# Altium footprint library 器件封装.PCBLIB: 225 footprints (part 5 of 15)
Each footprint in its own frame and in the unit in brackets; x right, y up, seen from the top. Pads: shape width x height; smd on the part's side, far side on the other; paste and mask are expansions set on the pad; w line width, h text height; cw(c..) or ccw(c..) is an arc to the next point about the centre after c.
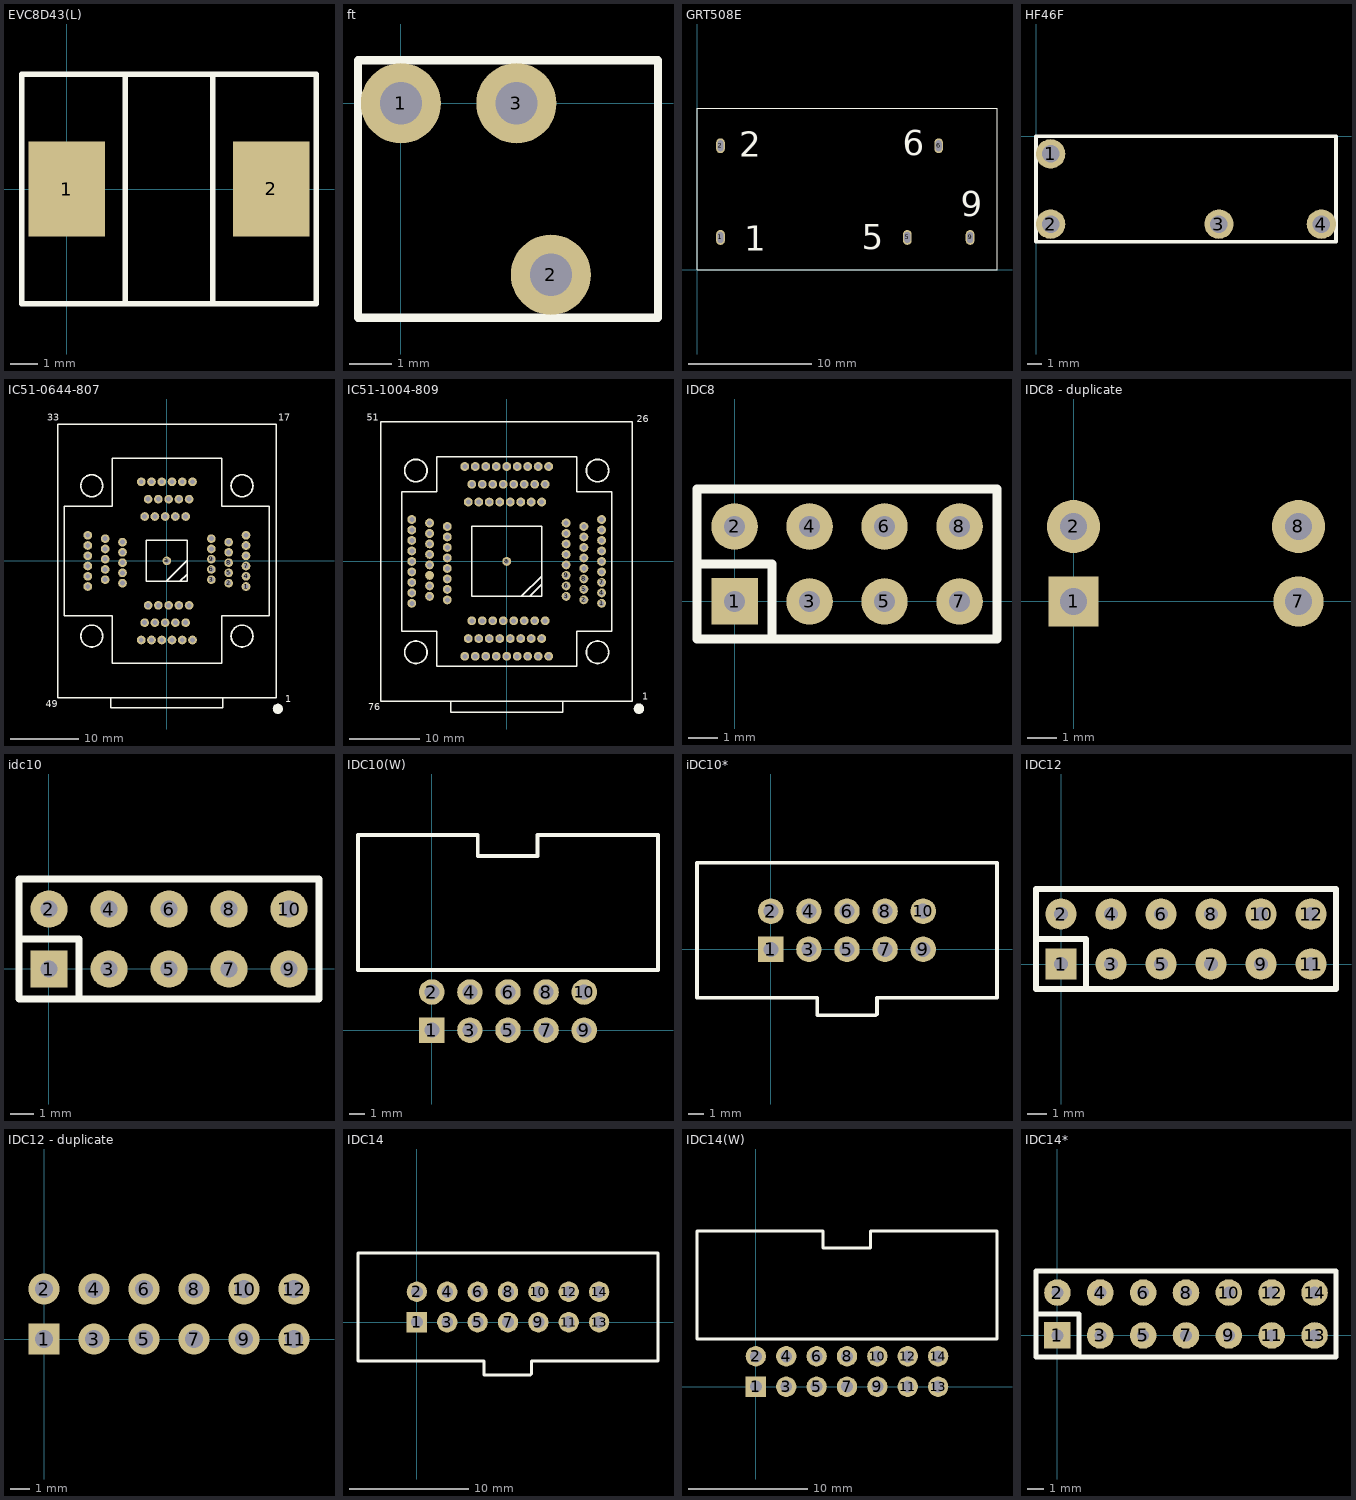
[diagram p4: the footprints below, top view; thin cyan lines are the x and y axes]

## EVC8D43(L) [mm]
pads (2):
  rect 2.8x3.5 smd: 1(0,0) 2(7.5,0)
TopOverlay:
  lines w0.2: 2.15,-4.2 2.15,4.2 ; 5.35,-4.2 5.35,4.2 ; -1.65,-4.2 9.15,-4.2 9.15,4.2 -1.65,4.2 -1.65,-4.2

## ft [mm]
pads (3):
  round 1.9 hole 1: 1(0,0) 2(3.556,-4.064) 3(2.74,0)
TopOverlay:
  lines w0.2: -1.016,-5.08 -1.016,1.016 6.096,1.016 6.096,-5.08 -1.016,-5.08

## GRT508E [mm]
pads (5):
  oval 0.7x1.2 hole 0.46 slot 0.88 at 90 deg: 1(1.9,2.6) 2(1.9,10.02) 5(17.02,2.6) 6(19.56,10.02) 9(22.1,2.6)
TopOverlay:
  lines w0.025: 0,0 24.28,0 24.28,13.04 0,13.04 0,0
  text "1" at 3.81,1.524 h2
  text "2" at 3.429,9.144 h2
  text "5" at 13.335,1.651 h2
  text "9" at 21.336,4.318 h2
  text "6" at 16.637,9.271 h2

## HF46F [mm]
pads (4):
  round 2 hole 1.2: 1(1,-1.2) 2(1,-6) 3(12.5,-6) 4(19.5,-6)
TopOverlay:
  lines w0.254: 0,-7.2 0,0 20.5,0 20.5,-7.2 0,-7.2

## IC51-0644-807 [mm]
pads (66):
  round 1.27 hole 0.72: 1(11.58,-3.75) 2(9.04,-3.25) 3(6.5,-2.75) 4(11.58,-2.25) 5(9.04,-1.75) 6(6.5,-1.25) 7(11.58,-0.75) 8(9.04,-0.25) 9(6.5,0.25) 10(11.58,0.75) 11(9.04,1.25) 12(6.5,1.75) 13(11.58,2.25) 14(9.04,2.75) 15(6.5,3.25) 16(11.58,3.75) 17(3.75,11.58) 18(3.25,9.04) 19(2.75,6.5) 20(2.25,11.58) 21(1.75,9.04) 22(1.25,6.5) 23(0.75,11.58) 24(0.25,9.04) 25(-0.25,6.5) 26(-0.75,11.58) 27(-1.25,9.04) 28(-1.75,6.5) 29(-2.25,11.58) 30(-2.75,9.04) 31(-3.25,6.5) 32(-3.75,11.58) 33(-11.58,3.75) 34(-9.04,3.25) 35(-6.5,2.75) 36(-11.58,2.25) 37(-9.04,1.75) 38(-6.5,1.25) 39(-11.58,0.75) 40(-9.04,0.25) 41(-6.5,-0.25) 42(-11.58,-0.75) 43(-9.04,-1.25) 44(-6.5,-1.75) 45(-11.58,-2.25) 46(-9.04,-2.75) 47(-6.5,-3.25) 48(-11.58,-3.75) 49(-3.75,-11.58) 50(-3.25,-9.04) 51(-2.75,-6.5) 52(-2.25,-11.58) 53(-1.75,-9.04) 54(-1.25,-6.5) 55(-0.75,-11.58) 56(-0.25,-9.04) 57(0.25,-6.5) 58(0.75,-11.58) 59(1.25,-9.04) 60(1.75,-6.5) 61(2.25,-11.58) 62(2.75,-9.04) 63(3.25,-6.5) 64(3.75,-11.58) a(0,0)
  round 1.524 on Top Overlay: ""(16.25,-21.644)
TopOverlay:
  circle w0.254: c-11,-11 r1.6
  circle w0.254: c11,-11 r1.6
  circle w0.254: c-11,11 r1.6
  circle w0.254: c11,11 r1.6
  lines w0.2: -8.2,-20 -8.2,-21.5 8.2,-21.5 8.2,-20 ; -0.1,-3 2.9,0 3,0 ; 1.9,-3 2.9,-2 ; -16,-20 -16,20 16,20 16,-20 -16,-20 ; -15,-8 -15,8 -8,8 -8,15 8,15 8,8 15,8 15,-8 8,-8 8,-15 -8,-15 -8,-8 -15,-8 ; -3,-3 -3,3 3,3 3,-3 -3,-3
  text "1" at 17.32,-20.67 h1
  text "33" at -17.5,20.5 h1
  text "17" at 16.3,20.5 h1
  text "49" at -17.7,-21.4 h1

## IC51-1004-809 [mm]
pads (102):
  round 1.27 hole 0.72: 1(13.58,-6) 2(11.04,-5.5) 3(8.5,-5) 4(13.58,-4.5) 5(11.04,-4) 6(8.5,-3.5) 7(13.58,-3) 8(11.04,-2.5) 9(8.5,-2) 10(13.58,-1.5) 11(11.04,-1) 12(8.5,-0.5) 13(13.58,0) 14(11.04,0.5) 15(8.5,1) 16(13.58,1.5) 17(11.04,2) 18(8.5,2.5) 19(13.58,3) 20(11.04,3.5) 21(8.5,4) 22(13.58,4.5) 23(11.04,5) 24(8.5,5.5) 25(13.58,6) 26(6,13.58) 27(5.5,11.04) 28(5,8.5) 29(4.5,13.58) 30(4,11.04) 31(3.5,8.5) 32(3,13.58) 33(2.5,11.04) 34(2,8.5) 35(1.5,13.58) 36(1,11.04) 37(0.5,8.5) 38(0,13.58) 39(-0.5,11.04) 40(-1,8.5) 41(-1.5,13.58) 42(-2,11.04) 43(-2.5,8.495) 44(-3,13.58) 45(-3.5,11.04) 46(-4,8.5) 47(-4.5,13.58) 48(-5,11.04) 49(-5.5,8.5) 50(-6,13.58) 51(-13.58,6) 52(-11.04,5.5) 53(-8.5,5) 54(-13.58,4.5) 55(-11.04,4) 56(-8.5,3.5) 57(-13.58,3) 58(-11.04,2.5) 59(-8.5,2) 60(-13.58,1.5) 61(-11.04,1) 62(-8.5,0.5) 63(-13.58,0) 64(-11.04,-0.5) 65(-8.5,-1) 66(-13.58,-1.5) 68(-8.5,-2.5) 69(-13.58,-3) 70(-11.04,-3.5) 71(-8.5,-4) 72(-13.58,-4.5) 73(-11.04,-5) 74(-8.5,-5.505) 75(-13.58,-6) 76(-6,-13.58) 77(-5.5,-11.04) 78(-5,-8.5) 79(-4.5,-13.58) 80(-4,-11.04) 81(-3.5,-8.5) 82(-3,-13.58) 83(-2.5,-11.04) 84(-2,-8.5) 85(-1.5,-13.58) 86(-1,-11.04) 87(-0.5,-8.5) 88(0,-13.58) 89(0.5,-11.04) 90(1,-8.5) 91(1.5,-13.58) 92(2,-11.04) 93(2.5,-8.5) 94(3,-13.58) 95(3.5,-11.04) 96(4,-8.5) 97(4.5,-13.58) 98(5,-11.04) 99(5.5,-8.5) 100(6,-13.58) a(0,0)
  round 1.27 all layers, no hole: 67(-11.04,-2)
  round 1.524 on Top Overlay: ""(18.92,-21.074)
TopOverlay:
  circle w0.254: c-13,13 r1.6
  circle w0.254: c13,13 r1.6
  circle w0.254: c13,-13 r1.6
  circle w0.254: c-13,-13 r1.6
  lines w0.2: -8,-20.1 -8,-21.6 8,-21.6 8,-20.1 ; 2.1,-5 5,-2.1 ; 3.3,-5 5,-3.3 ; -18,-20 -18,20 18,20 18,-20 -18,-20 ; -15,-10 -10,-10 -10,-15 10,-15 10,-10 15,-10 15,10 10,10 10,15 -10,15 -10,10 -15,10 -15,-10 ; -5,-5 -5,5 5,5 5,-5 -5,-5
  text "26" at 18.6,19.895 h1
  text "1" at 19.37,-19.804 h1
  text "51" at -20,20.095 h1
  text "76" at -19.8,-21.305 h1

## IDC8 [mil]
pads (8):
  rect 62x62 hole 28: 1(0,0)
  round 62 hole 28: 2(0,100) 3(100,0) 4(100,100) 5(200,0) 6(200,100) 7(300,0) 8(300,100)
TopOverlay:
  lines w12: -50,50 50,50 50,-50 ; -50,-50 350,-50 350,150 -50,150 -50,-50

## IDC8 - duplicate [mm]
pads (4):
  rect 1.7x1.7 hole 0.9: 1(0,0)
  round 1.8 hole 0.9: 2(0,2.54) 8(7.62,2.54)
  round 1.7 hole 0.9: 7(7.62,0)
BottomOverlay:
  lines w0.305: -1.27,1.27 1.27,1.27 1.27,-1.27 ; -1.27,-1.27 8.89,-1.27 8.89,3.81 -1.27,3.81 -1.27,-1.27

## idc10 [mil]
pads (10):
  rect 62x62 hole 28: 1(0.3,-0.31)
  round 62 hole 28: 2(0.3,99.69) 3(100.3,-0.31) 4(100.3,99.69) 5(200.3,-0.31) 6(200.3,99.69) 7(300.3,-0.31) 8(300.3,99.69) 9(400.3,-0.31) 10(400.3,99.69)
TopOverlay:
  lines w12: -49.7,49.69 50.3,49.69 50.3,-50.31 ; -49.7,-50.31 450.3,-50.31 450.3,149.69 -49.7,149.69 -49.7,-50.31

## IDC10(W) [mm]
pads (10):
  rect 1.7x1.7 hole 1: 1(0,0)
  round 1.7 hole 1: 2(0,2.54) 3(2.54,0) 4(2.54,2.54) 5(5.08,0) 6(5.08,2.54) 7(7.62,0) 8(7.62,2.54) 9(10.16,0) 10(10.16,2.54)
TopOverlay:
  lines w0.254: 7.04,13 7.04,11.6 3.06,11.6 3.06,13 -4.92,13 -4.92,4 15.08,4 15.08,13 7.1,13

## iDC10* [mm]
pads (10):
  rect 1.7x1.7 hole 1: 1(0,0)
  round 1.7 hole 1: 2(0,2.54) 3(2.54,0) 4(2.54,2.54) 5(5.08,0) 6(5.08,2.54) 7(7.62,0) 8(7.62,2.54) 9(10.16,0) 10(10.16,2.54)
TopOverlay:
  lines w0.254: -4.92,-3.23 -4.92,5.77 15.08,5.77 15.08,-3.23 7.08,-3.23 7.08,-4.32 7,-4.4 3.1,-4.4 3.1,-3.25 3.08,-3.23 -4.92,-3.23

## IDC12 [mil]
pads (12):
  rect 62x62 hole 28: 1(0,0)
  round 62 hole 28: 2(0,100) 3(100,0) 4(100,100) 5(200,0) 6(200,100) 7(300,0) 8(300,100) 9(400,0) 10(400,100) 11(500,0) 12(500,100)
TopOverlay:
  lines w12: -50,50 50,50 50,-50 ; -50,-50 550,-50 550,150 -50,150 -50,-50

## IDC12 - duplicate [mm]
pads (12):
  rect 1.6x1.6 hole 0.9: 1(0,0)
  round 1.6 hole 0.9: 2(0,2.54) 3(2.54,0) 4(2.54,2.54) 5(5.08,0) 6(5.08,2.54) 7(7.62,0) 8(7.62,2.54) 9(10.16,0) 10(10.16,2.54) 11(12.7,0) 12(12.7,2.54)
BottomOverlay:
  lines w0.305: -1.27,1.27 1.27,1.27 1.27,-1.27 ; -1.27,-1.27 13.97,-1.27 13.97,3.81 -1.27,3.81 -1.27,-1.27

## IDC14 [mm]
pads (14):
  rect 1.7x1.7 hole 1: 1(0,0)
  round 1.7 hole 1: 2(0,2.54) 3(2.54,0) 4(2.54,2.54) 5(5.08,0) 6(5.08,2.54) 7(7.62,0) 8(7.62,2.54) 9(10.16,0) 10(10.16,2.54) 11(12.7,0) 12(12.7,2.54) 13(15.24,0) 14(15.24,2.54)
TopOverlay:
  lines w0.254: 5.6,-3.25 5.6,-4.4 9.5,-4.4 9.58,-4.32 9.58,-3.23 20.16,-3.23 20.16,5.77 -4.92,5.77 -4.92,-3.23 5.6,-3.23

## IDC14(W) [mm]
pads (14):
  rect 1.7x1.7 hole 1: 1(0,0)
  round 1.7 hole 1: 2(0,2.54) 3(2.54,0) 4(2.54,2.54) 5(5.08,0) 6(5.08,2.54) 7(7.62,0) 8(7.62,2.54) 9(10.16,0) 10(10.16,2.54) 11(12.7,0) 12(12.7,2.54) 13(15.24,0) 14(15.24,2.54)
TopOverlay:
  lines w0.254: -4.92,4 20.16,4 20.16,13 9.58,13 9.58,11.6 5.6,11.6 5.6,13 -4.92,13 -4.92,4

## IDC14* [mil]
pads (14):
  rect 62x62 hole 28: 1(0,0)
  round 62 hole 28: 2(0,100) 3(100,0) 4(100,100) 5(200,0) 6(200,100) 7(300,0) 8(300,100) 9(400,0) 10(400,100) 11(500,0) 12(500,100) 13(600,0) 14(600,100)
TopOverlay:
  lines w12: -50,50 50,50 50,-50 ; -50,-50 650,-50 650,150 -50,150 -50,-50